# Altium schematic symbol library Resistors-PTH-3W.SchLib: 1 symbol
Pins are listed as number, name and electrical type; pins without a type are passive.

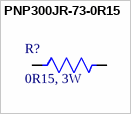
[diagram p0: symbol PNP300JR-73-0R15]

## PNP300JR-73-0R15
designator R?, comment 0R15, 3W
RES 0.15 OHM 5% 3W AXIAL; Manufacturer: Yageo; Manufacturer Part Number: PNP300JR-73-0R15; Manufacturer Series: PNP; Value: 150mR; Working Voltage: 300V; Lead Diameter: 0.8mm; Lead Length: 35mm; Package Diameter: 4.5mm; Package Length: 11.5mm; Supplier: Digikey; Supplier Part Number: 13-PNP300JR-73-0R15CT-ND; RoHS: Yes; Category: Through-Hole Resistors; Stock: 8861; Pricing: 1=0.5, 10=0.335, 25=0.278, 50=0.2352, 100=0.176, 250=0.1568, 500=0.12828, 1000=0.09977 (USD); Pins: 2; Package Shape: Cylindrical; Min Operating Temperature: -40°C; Max Operating Temperature: 200°C; Tolerance: 5%; Resistor Type: FIXED RESISTOR; Construction: Cylindrical; Package Style: AxialMeter; Packaging: Tape and Reel; Power: 3W; Series: PNP; Technology: WIRE WOUND; Reach SVHC Compliant: Yes; RoHS Compliant: Yes; ComponentLink1URL: https://datasheet.ciiva.com:443/pdfs/VipMasterIC/IC/YAGO/YAGOS02178/YAGOS02178-1.pdf?src-supplier=IHS+Markit; ComponentLink1Description: https://datasheet.ciiva.com:443/pdfs/VipMasterIC/IC/YAGO/YAGOS02178/YAGOS02178-1.pdf?src-supplier=IHS+Markit; ComponentLink2URL: https://datasheet.ciiva.com/2725/yageolr-pnp-2013-2725286.pdf?src-supplier=Digikey; ComponentLink2Description: https://datasheet.ciiva.com/2725/yageolr-pnp-2013-2725286.pdf?src-supplier=Digikey; ComponentLink3URL: https://datasheet.ciiva.com/2725/yageolr-pnp-2013-2725287.pdf?src-supplier=Digikey; ComponentLink3Description: https://datasheet.ciiva.com/2725/yageolr-pnp-2013-2725287.pdf?src-supplier=Digikey
footprint RES-0R15-3W
pins: 1, 2